# EAGLE library part MUX-74HC4067 (library Batebit)
16-channel analog MUX
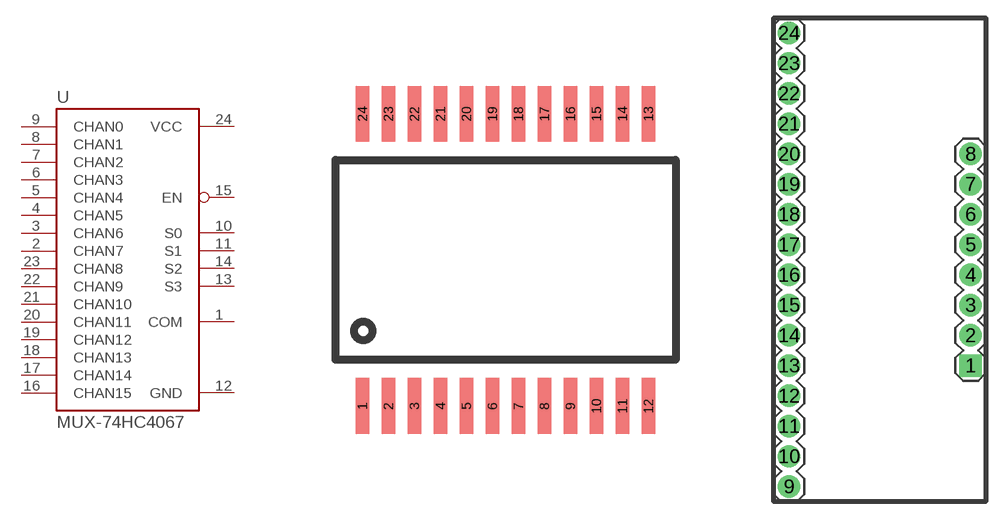
[diagram p14: symbol with the pads of SSOP24; footprints SSOP24, ANALOG_MUX]

Designator prefix -

## MUX-74HC4067SMD  [SSOP24]
1  COM
2  CHAN7
3  CHAN6
4  CHAN5
5  CHAN4
6  CHAN3
7  CHAN2
8  CHAN1
9  CHAN0
10  S0  in
11  S1  in
12  GND
13  S3  in
14  S2  in
15  EN  in
16  CHAN15
17  CHAN14
18  CHAN13
19  CHAN12
20  CHAN11
21  CHAN10
22  CHAN9
23  CHAN8
24  VCC

## MUX-74HC4067BREAKOUT  [ANALOG_MUX]
1  GND
2  VCC
3  EN  in
4  S0  in
5  S1  in
6  S2  in
7  S3  in
8  COM
9  CHAN0
10  CHAN1
11  CHAN2
12  CHAN3
13  CHAN4
14  CHAN5
15  CHAN6
16  CHAN7
17  CHAN8
18  CHAN9
19  CHAN10
20  CHAN11
21  CHAN12
22  CHAN13
23  CHAN14
24  CHAN15

## Footprint SSOP24 (pad centres in mm)
smd 0.348 x 1.397: 1 -3.575,-3.656; 2 -2.925,-3.656; 3 -2.275,-3.656; 4 -1.625,-3.656; 5 -0.975,-3.656; 6 -0.325,-3.656; 7 0.325,-3.656; 8 0.975,-3.656; 9 1.625,-3.656; 10 2.275,-3.656; 11 2.925,-3.656; 12 3.575,-3.656; 13 3.575,3.656; 14 2.925,3.656; 15 2.275,3.656; 16 1.625,3.656; 17 0.975,3.656; 18 0.325,3.656; 19 -0.325,3.656; 20 -0.975,3.656; 21 -1.625,3.656; 22 -2.275,3.656; 23 -2.925,3.656; 24 -3.575,3.656

## Footprint ANALOG_MUX (pad centres in mm)
drill 1.016 pad 1.88 square: 1 7.62,-10.16
drill 1.016 pad 1.88: 2 7.62,-7.62; 3 7.62,-5.08; 4 7.62,-2.54; 5 7.62,0; 6 7.62,2.54; 7 7.62,5.08; 8 7.62,7.62; 9 -7.62,-20.32; 10 -7.62,-17.78; 11 -7.62,-15.24; 12 -7.62,-12.7; 13 -7.62,-10.16; 14 -7.62,-7.62; 15 -7.62,-5.08; 16 -7.62,-2.54; 17 -7.62,0; 18 -7.62,2.54; 19 -7.62,5.08; 20 -7.62,7.62; 21 -7.62,10.16; 22 -7.62,12.7; 23 -7.62,15.24; 24 -7.62,17.78